# Altium schematic symbol library HRTAltiumLib.SchLib: 3 symbols
Pins are listed as number, name and electrical type; pins without a type are passive.

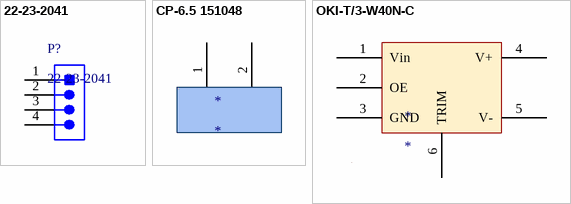
[diagram p0: symbols 22-23-2041 to OKI-T/3-W40N-C]

## 22-23-2041
designator P?
MOLEX 4POS MALE HEADER VERT
footprint 22-23-2041 (CONN HEADER 4POS .100 VERT TIN)
pins: 1, 2, 3, 4

## CP-6.5 151048
designator *
Connector Header Through Hole 2 position
pins: 1, 2

## OKI-T/3-W40N-C
designator *
pins: 1 Vin, 2 OE, 3 GND, 4 V+, 5 V-, 6 TRIM